# Altium footprint library LibraryPloshchadnaia.PcbLib: 35 footprints (part 1 of 3)
Each footprint in its own frame and in the unit in brackets; x right, y up, seen from the top. Pads: shape width x height; smd on the part's side, far side on the other; paste and mask are expansions set on the pad; w line width, h text height; cw(c..) or ccw(c..) is an arc to the next point about the centre after c.
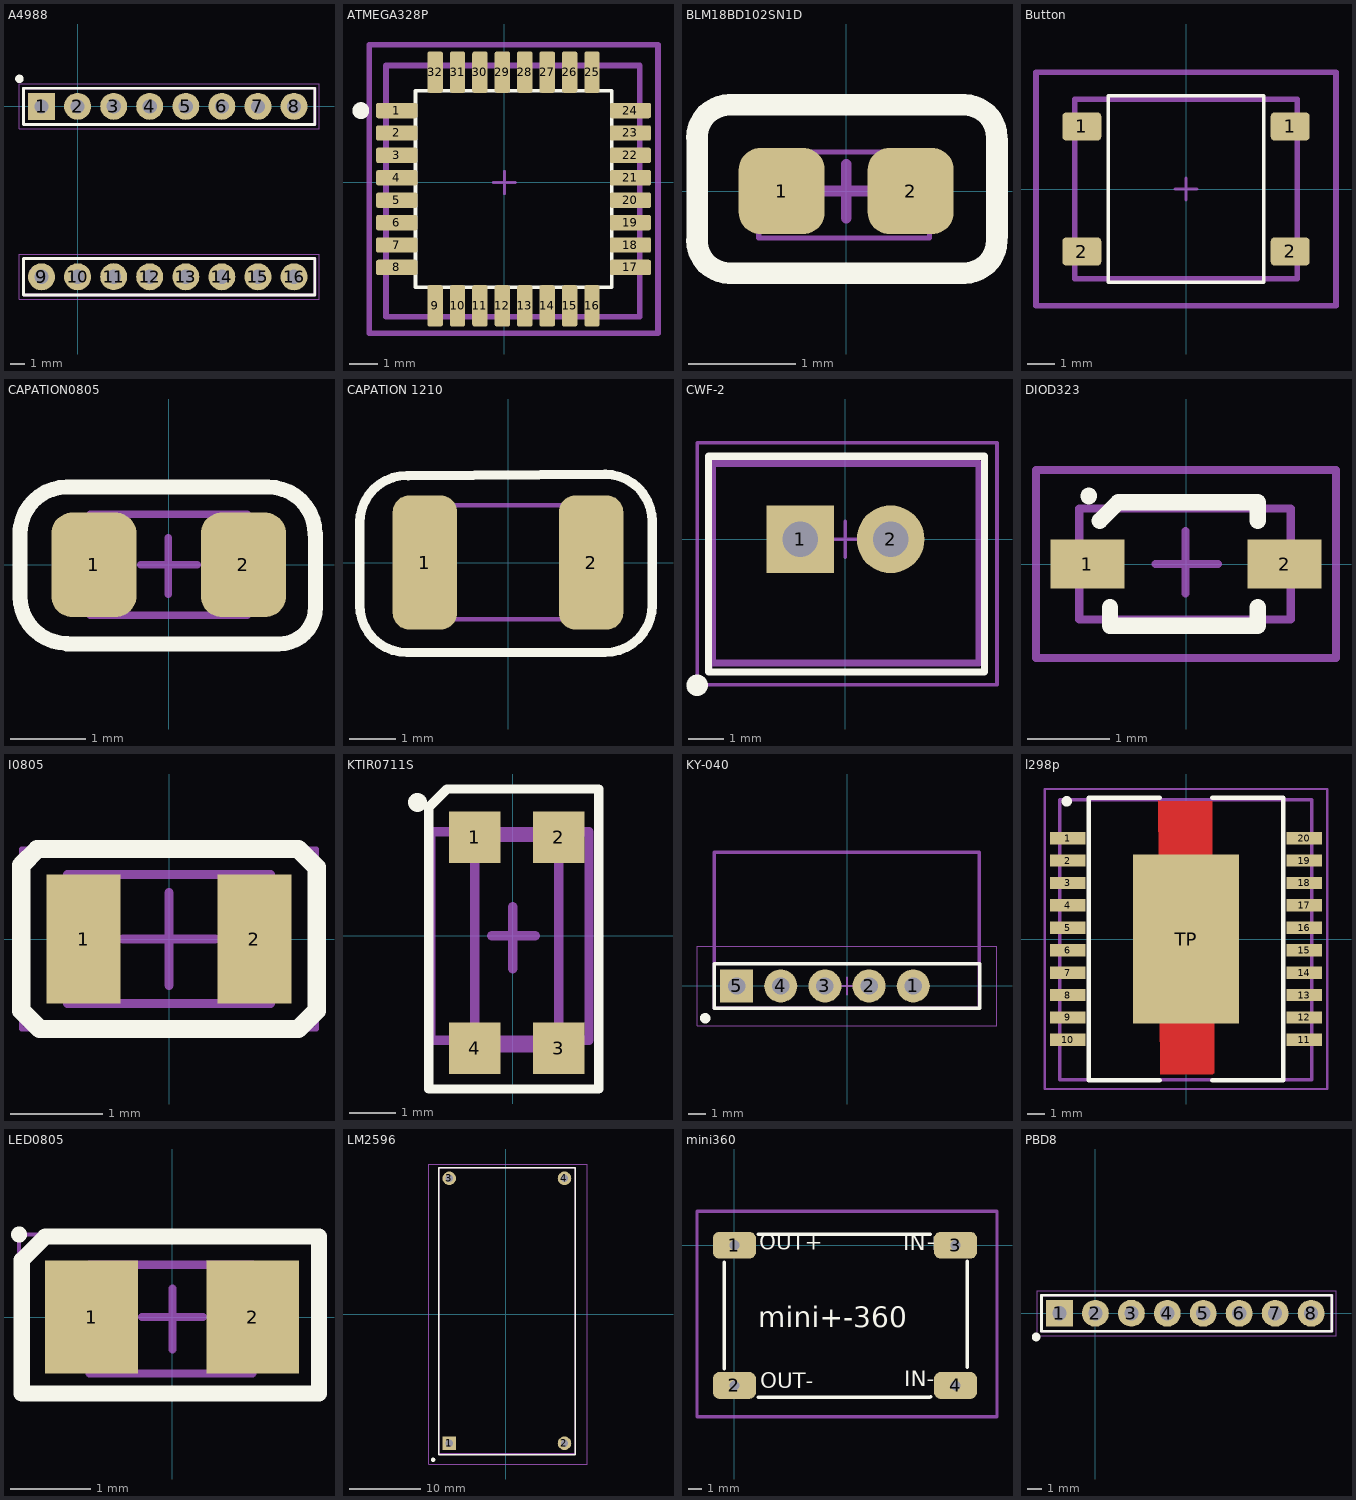
[diagram p0: the footprints below, top view; thin cyan lines are the x and y axes]

## A4988 [mm]
pads (16):
  rect 1.9x1.9 hole 1: 1(-2.54,0)
  round 1.9 hole 1: 2(0,0) 3(2.545,0.005) 4(5.08,0) 5(7.62,0) 6(10.16,0) 7(12.7,0) 8(15.24,0) 9(-2.54,-12) 10(0,-12) 11(2.545,-11.995) 12(5.08,-12) 13(7.62,-12) 14(10.16,-12) 15(12.7,-12) 16(15.24,-12)
Top Overlay:
  circle w0.6: c-4.096,1.936 r0.001
  lines w0.2: -3.815,-10.725 -3.815,-13.275 16.7,-13.275 16.7,-10.725 -3.81,-10.725 ; -3.815,1.275 -3.815,-1.275 16.7,-1.275 16.7,1.275 -3.81,1.275
Top Value (Mech7):
  text ".Comment" at -3.175,-13.143 h1.2
  text ".Comment" at -3.175,-1.143 h1.2
Top Designator:
  text ".Designator" at -3.763,-12.409 h1.5
  text ".Designator" at -3.763,-0.409 h1.5
Top Outline:
  circle w0.35: c-3.065,-11.675 r0.15
  circle w0.35: c-3.065,0.325 r0.15
  lines w0.1: 16.7,-13.275 16.7,-10.725 -3.815,-10.725 -3.815,-13.275 16.725,-13.275 ; 16.7,-1.275 16.7,1.275 -3.815,1.275 -3.815,-1.275 16.725,-1.275
  lines w0.2: 16.7,-13.275 -3.815,-13.275 -3.815,-10.725 16.725,-10.725 16.725,-13.275 ; 16.7,-1.275 -3.815,-1.275 -3.815,1.275 16.725,1.275 16.725,-1.275
Top Courtyard:
  lines w0.05: -4.125,-10.425 -4.125,-13.575 17,-13.575 17,-10.425 -4.115,-10.425 ; -4.125,1.575 -4.125,-1.575 17,-1.575 17,1.575 -4.115,1.575
  lines w0.1: -0.5,-12 0.5,-12 ; -0.5,0 0.5,0 ; 0,-12.5 0,-11.5 ; 0,-0.5 0,0.5
3D body "PBD-8-one.stp": height 8.5, standoff -3, extent -3.795,-13.232 16.522,-10.71
3D body "PBD-8-one.stp": height 8.5, standoff -3, extent -3.795,-1.232 16.522,1.29
3D body "A4988.stp": height 15.6, standoff 3.65, extent -3.65,-13.55 16.67,1.45

## ATMEGA328P [mm]
pads (32):
  rrect25% 1.47x0.55 smd: 1(-3.842,2.566) 2(-3.842,1.766) 3(-3.842,0.966) 4(-3.842,0.166) 5(-3.842,-0.634) 6(-3.842,-1.434) 7(-3.842,-2.234) 8(-3.842,-3.034) 17(4.498,-3.034) 18(4.498,-2.234) 19(4.498,-1.434) 20(4.498,-0.634) 21(4.498,0.166) 22(4.498,0.966) 23(4.498,1.766) 24(4.498,2.566)
  rrect25% 0.55x1.47 smd: 9(-2.472,-4.404) 10(-1.672,-4.404) 11(-0.872,-4.404) 12(-0.072,-4.404) 13(0.728,-4.404) 14(1.528,-4.404) 15(2.328,-4.404) 16(3.128,-4.404) 25(3.128,3.936) 26(2.328,3.936) 27(1.528,3.936) 28(0.728,3.936) 29(-0.072,3.936) 30(-0.872,3.936) 31(-1.672,3.936) 32(-2.472,3.936)
Top Overlay:
  circle w0.4: c-5.125,2.562 r0.1
  lines w0.127: -3.172,-3.629 -3.172,-3.734 ; -3.172,3.161 -3.172,3.266 ; -3.067,-3.734 -3.172,-3.734 ; -3.067,3.266 -3.172,3.266 ; 3.723,-3.734 3.828,-3.734 ; 3.723,3.266 3.828,3.266 ; 3.828,-3.629 3.828,-3.734 ; 3.828,3.161 3.828,3.266 ; -3.172,-3.734 3.828,-3.734 ; -3.172,-3.734 -3.172,3.266 ; -3.172,3.266 3.828,3.266 ; 3.828,-3.734 3.828,3.266
Top Value (Mech7):
  text ".Comment" at -2.45,-2.184 h1.52
Top Designator:
  text ".Designator" at -2.6,1.48 h1.52
Top Outline:
  lines w0.2: -4.225,-4.8 4.825,-4.8 4.825,4.175 -4.175,4.175 -4.225,4.175 -4.225,-4.8
Top 3D Body:
  circle w0.2: c-5.1,2.562 r0.1
Top Courtyard:
  lines w0.1: -0.401,-0.004 0.399,-0.004 ; -0.001,-0.404 -0.001,0.396
  lines w0.2: -4.827,-5.389 -4.827,4.921 5.483,4.921 5.483,-5.389 -4.827,-5.389
3D body "step_temp.STEP": height 1.2, standoff 0, extent -4.172,-4.734 4.828,4.266

## BLM18BD102SN1D [mm]
pads (2):
  rrect50% 0.8x0.8 smd: 1(-0.6,0) 2(0.6,0)
Top Overlay:
  lines w0.2: -1.388,-0.462 ccw(c-1.088,-0.462) -1.088,-0.762 1.1,-0.763 ccw(c1.1,-0.462) 1.4,-0.462 ; -1.388,0.5 cw(c-1.088,0.5) -1.088,0.8 1.1,0.8 cw(c1.1,0.5) 1.4,0.5 ; -1.385,-0.422 -1.385,0.471 ; 1.403,-0.422 1.403,0.471
Top Value (Mech7):
  text ".Comment" at 1.813,-0.713 h1.2
Top Designator:
  text ".Designator" at 1.838,0.437 h1.2
Top Outline:
  lines w0.05: -0.813,-0.437 0.775,-0.437 0.775,0.363 -0.813,0.363 -0.813,-0.437
Top Courtyard:
  lines w0.05: -1.388,-0.462 ccw(c-1.088,-0.462) -1.088,-0.762 1.1,-0.763 ccw(c1.1,-0.462) 1.4,-0.462 ; -1.388,0.5 cw(c-1.088,0.5) -1.088,0.8 1.1,0.8 cw(c1.1,0.5) 1.4,0.5 ; -1.385,-0.422 -1.385,0.471 ; 1.403,-0.422 1.403,0.471
  lines w0.1: -0.25,0 0.25,0 ; 0,-0.25 0,0.25
3D body "BLM18BD102SN1B.stp": height 0.8, standoff 0, extent -0.813,-0.45 0.788,0.35

## Button [mm]
height 4
pads (4):
  rrect25% 1.4x1 smd: 1(-3.75,2.25) 1(3.75,2.25) 2(-3.75,-2.25) 2(3.75,-2.25)
Top Overlay:
  lines w0.127: -2.794,-3.35 -2.794,3.35 2.794,3.35 2.794,-3.35 -2.794,-3.35
Top Value (Mech7):
  text ".Comment" at -2.13,-3.099 h1.5
Top Designator:
  text ".Designator" at -2.575,2.2 h1.5
Top Outline:
  lines w0.2: -3.975,3.225 -4,3.225 ; -4,3.225 -4,-3.225 4,-3.225 4,3.225 -4,3.225
Top Courtyard:
  lines w0.1: -0.4,0 0.4,0 ; 0,-0.4 0,0.4
  lines w0.2: -5.4,-4.2 5.4,-4.2 5.4,4.2 -5.4,4.2 -5.4,-4.2
3D body "TS-1143S-WP.STEP": height 4.3, standoff 0, extent -4,-3.25 4,3.25

## CAPATION0805 [mm]
pads (2):
  rrect50% 1.14x1.4 smd: 1(-1,0) 2(1,0)
Top Overlay:
  lines w0.2: -1.988,-0.422 ccw(c-1.36,-0.422) -1.36,-1.05 ; -1.988,0.412 cw(c-1.36,0.412) -1.36,1.04 1.33,1.04 cw(c1.33,0.412) 1.958,0.412 ; -1.985,-0.422 -1.985,0.471 ; -1.36,-1.06 1.471,-1.06 ccw(c1.471,-0.567) 1.964,-0.567 1.964,-0.276 1.965,-0.275 1.965,0.412
Top Value (Mech7):
  text ".Comment" at 2.125,-0.725 h1.2
Top Designator:
  text ".Designator" at 2.15,0.425 h1.2
Top Outline:
  lines w0.1: -1.05,-0.675 -1.05,0.675 1.05,0.675 1.05,-0.675 -1.05,-0.675
Top Courtyard:
  lines w0.05: -2.001,-0.369 ccw(c-1.35,-0.369) -1.35,-1.02 1.359,-1.02 ; -2.001,0.43 cw(c-1.35,0.43) -1.35,1.081 ; -2,-0.369 -2,0.43 ; -1.35,1.08 1.359,1.08 ; 1.359,-1.021 ccw(c1.359,-0.37) 2.01,-0.37 2.01,-0.02 2.01,0.425 ccw(c1.359,0.425) 1.359,1.076
  lines w0.1: -0.375,0 0.385,0 ; -0.005,-0.397 -0.005,0.363
3D body: height 1.35, standoff 0, extent 0.6,-0.675 1.05,0.675
3D body: height 1.35, standoff 0, extent -1.05,-0.675 -0.6,0.675
3D body: height 1.35, standoff 0, extent -0.6,-0.675 0.6,0.675

## CAPATION 1210 [mm]
pads (2):
  rrect50% 1.4x2.9 smd: 1(-1.8,0) 2(1.8,0)
Top Overlay:
  lines w0.2: -3.213,-0.931 -3.213,0.863 cw(c-2.188,0.863) -2.188,1.888 ; -3.213,-0.925 ccw(c-2.188,-0.925) -2.188,-1.95 ; -2.187,-1.952 2.099,-1.947 ; -2.162,1.881 2.112,1.91 ; 2.1,-1.95 ccw(c2.1,-0.925) 3.125,-0.925 ; 2.1,1.913 cw(c2.1,0.888) 3.125,0.888 3.125,-0.906
Top Value (Mech7):
  text ".Comment" at 3.225,-0.65 h1.2
Top Designator:
  text ".Designator" at 3.25,0.5 h1.2
Top Outline:
  lines w0.1: -1.587,-1.225 1.562,-1.225 1.562,1.238 -1.587,1.238 -1.587,-1.225
Top Courtyard:
  lines w0.05: -3.225,-0.956 -3.225,0.837 cw(c-2.2,0.837) -2.2,1.863 ; -3.225,-0.95 ccw(c-2.2,-0.95) -2.2,-1.975 ; -2.2,-1.977 2.086,-1.972 ; -2.175,1.856 2.1,1.885 ; 2.087,-1.975 ccw(c2.087,-0.95) 3.113,-0.95 ; 2.087,1.888 cw(c2.087,0.863) 3.113,0.863 3.113,-0.931
3D body "!_1210.STEP": height 2, standoff 0, extent -1.6,-1.25 1.6,1.25

## CWF-2 [mm] "PLS-2"
height 11.5
pads (2):
  rect 1.9x1.9 hole 1: 1(-1.27,0)
  round 1.9 hole 1: 2(1.27,0)
Top Overlay:
  circle w0.6: c-4.163,-4.102 r0.001
  lines w0.2: -3.843,-3.723 3.909,-3.723 3.909,2.328 -3.843,2.328 -3.843,-3.723
Top Value (Mech7):
  text ".Comment" at -1.672,0.143 h1.2
Top Designator:
  text ".Designator" at -2.523,-1.078 h1.5
Top Outline:
  circle w0.35: c-1.795,0.325 r0.15
  lines w0.1: -3.781,-3.732 1.184,-3.732 3.729,-3.732 3.866,-3.732 3.866,2.324 -3.781,2.324 -3.781,-3.732
  lines w0.2: -3.725,-3.475 3.75,-3.475 3.75,2.125 -3.7,2.125 -3.725,2.125 -3.725,-3.475
Top Courtyard:
  lines w0.1: -0.5,0 0.5,0 ; 0,-0.5 0,0.5 ; -4.161,-4.087 -4.161,2.713 4.255,2.713 4.255,-4.087 -4.161,-4.087
3D body "User Library-CWF-2.STEP": height 7, standoff -3.5, extent -3.73,-3.55 3.77,2.2

## DIOD323 [mm]
pads (2):
  rect 0.9x0.6 smd: 1(-1.2,0) 2(1.2,0)
Top Overlay:
  circle w0.2: c-1.183,0.828 r0.001
  lines w0.2: -1.05,0.525 -0.825,0.75 0.875,0.75 0.875,0.525 ; -0.925,-0.525 -0.925,-0.75 0.875,-0.75 0.875,-0.525
Top Value (Mech7):
  text ".Comment" at 1.888,-0.66 h1.2
Top Designator:
  text ".Designator" at 1.888,0.229 h1.2
Top Outline:
  lines w0.1: -1.3,-0.675 1.275,-0.675 1.275,0.675 -1.3,0.675 -1.3,-0.675
Top Courtyard:
  lines w0.1: -0.371,-0.001 0.389,-0.001 ; -0.008,-0.357 -0.008,0.403 ; -1.825,-1.143 -1.825,0.7 -1.825,1.143 1.825,1.143 1.825,-1.143 -1.825,-1.143
3D body "SOD-323F.STEP": height 1.1, standoff 0, extent -1.3,-0.675 1.3,0.675

## I0805 [mm] "inductor"
height 0.45
pads (2):
  rect 0.8x1.4 smd: 1(-0.925,0) 2(0.925,0)
Top Overlay:
  lines w0.2: -1.6,-0.775 -1.6,0.8 -1.425,0.975 1.4,0.975 1.6,0.775 1.6,-0.775 1.4,-0.975 -1.4,-0.975 -1.6,-0.775
Top Value (Mech7):
  text ".Comment" at -0.5,-0.6 h1
Top Designator:
  text ".Designator" at -0.5,0.1 h1
Top Outline:
  lines w0.1: -1.1,-0.7 1.1,-0.7 1.1,0.7 -1.1,0.7 -1.1,-0.7
Top Courtyard:
  lines w0.05: -1.6,-0.975 -1.6,0.975 1.6,0.975 1.6,-0.975 -1.6,-0.975
  lines w0.1: -0.5,0 0.5,0 ; 0,-0.5 0,0.5
3D body "User Library-led_0805.step": height 1.1, standoff 0, extent -1.01,-0.625 1.01,0.625

## KTIR0711S [mm]
pads (4):
  rect 1.1x1.1 smd: 1(-0.817,2.105) 2(0.983,2.105) 3(0.983,-2.395) 4(-0.817,-2.395)
Top Overlay:
  circle w0.4: c-2.037,2.85 r0.001
  lines w0.2: -1.793,-3.269 -1.793,2.749 -1.643,2.899 -1.557,2.984 -1.407,3.135 1.83,3.135 1.83,-3.269 -1.793,-3.269
Top Value (Mech7):
  text ".Comment" at 2,0.591 h1.52
Top Designator:
  text ".Designator" at 2.075,1.705 h1.52
Top Outline:
  lines w0.2: -1.8,2.225 1.625,2.225 1.625,-2.225 -1.75,-2.225 -1.75,2.225
Top Courtyard:
  lines w0.2: -0.45,0 0,0 ; 0,-0.7 0,0 ; 0,0.625 0,0 ; 0.475,0 0,0 ; -0.817,-2.395 -0.817,2.105 0.983,2.105 0.983,-2.395 -0.817,-2.395
3D body "User Library-ktir0711s-1.STEP": height 1.5, standoff 0, extent -1.76,-2.282 1.64,2.218

## KY-040 [mm]
pads (5):
  round 1.9 hole 1 mask+0.102: 1(3.81,0) 2(1.27,0)
  round 1.9 hole 1: 3(-1.27,0) 4(-3.81,0)
  rect 1.9x1.9 hole 1: 5(-6.35,0)
Top Overlay:
  circle w0.6: c-8.155,-1.85 r0.001
  lines w0.2: -7.625,-1.275 -7.625,1.275 7.625,1.275 7.625,-1.275 -7.625,-1.275
Top Value (Mech7):
  text ".Comment" at -6.985,-1.143 h1.2
Top Designator:
  text ".Designator" at -7.573,-0.409 h1.5
Top Outline:
  circle w0.35: c-6.875,0.325 r0.15
  lines w0.1: -7.625,-1.275 7.625,-1.275 7.625,1.275 -7.625,1.275 -7.625,-1.275
  lines w0.2: -7.625,-1.275 7.6,-1.275 7.6,7.675 -7.625,7.675 -7.625,-1.275
Top Courtyard:
  lines w0.05: -8.625,-2.275 -8.625,2.275 8.625,2.275 8.625,-2.275 -8.625,-2.275
  lines w0.1: -0.5,0 0.5,0 ; 0,-0.5 0,0.5
3D body "User Library-PLS-6R-1.STEP": height 5.45, standoff -3, extent -7.57,-1.27 7.67,7.35

## l298p [mm]
pads (21):
  rect 2x0.7 smd: 1(-6.7,5.715) 2(-6.7,4.445) 3(-6.7,3.175) 4(-6.7,1.905) 5(-6.7,0.635) 6(-6.7,-0.635) 7(-6.7,-1.905) 8(-6.7,-3.175) 9(-6.7,-4.445) 10(-6.7,-5.715) 11(6.7,-5.715) 12(6.7,-4.445) 13(6.7,-3.175) 14(6.7,-1.905) 15(6.7,-0.635) 16(6.7,0.635) 17(6.7,1.905) 18(6.7,3.175) 19(6.7,4.445) 20(6.7,5.715)
  rect 6x9.6 smd paste-6: TP(0,0)
Top Layer:
  region: -1.575,7.875 -1.5,7.8 1.5,7.8 1.5,4.3 1.425,4.225 -1.55,4.225
  region: -1.475,-4.025 -1.4,-4.1 1.6,-4.1 1.6,-7.6 1.525,-7.675 -1.45,-7.675
Top Overlay:
  circle w0.6: c-6.756,7.802 r0.001
  lines w0.254: -1.5,-8 -5.5,-8 -5.5,8 -1.5,8 ; 1.5,-8 5.5,-8 5.5,8 1.5,8
Top Paste:
  region: 1.9,-3.001 -1.901,-3.001 -1.901,3 1.9,3
Top Solder:
  rectangle: -1.65,-8 1.775,-4.6
  rectangle: -1.725,4.7 1.7,8
Top Value (Mech7):
  text ".Comment" at 8.251,5.722 h1.2
Top Designator:
  text ".Designator" at 8.276,6.872 h1.2
Top Outline:
  lines w0.2: -7.15,-7.975 7.125,-7.975 7.125,7.9 -7.1,7.9 -7.15,7.9 -7.15,-7.975
Top Courtyard:
  lines w0.1: -0.399,-0.001 0.401,-0.001 ; 0.001,-0.401 0.001,0.399
  lines w0.127: -8,-8.5 8,-8.5 8,8.5 -8,8.5 -8,-8.5
3D body "step_temp.STEP": height 3.6, standoff 0, extent -7.1,-7.95 7.1,7.95

## LED0805 [mm]
pads (2):
  rect 1.15x1.4 smd: 1(-1,0) 2(1,0)
Top Overlay:
  circle w0.2: c-1.9,1.025 r0.001
  lines w0.2: -1.867,-0.95 1.825,-0.95 1.825,1 -1.575,1 -1.867,0.708 -1.867,-0.95
Top Value (Mech7):
  text ".Comment" at 2.1,-0.875 h1.2
Top Designator:
  text ".Designator" at 2.125,0.275 h1.2
Top Outline:
  lines w0.1: -1.025,-0.7 -1.025,0.65 1,0.65 1,-0.7 -1.025,-0.7
Top Courtyard:
  lines w0.05: -1.9,-0.95 1.825,-0.95 1.825,1.025 -1.9,1.025 -1.9,-0.95
  lines w0.1: -0.375,0 0.385,0 ; 0.004,-0.404 0.004,0.356
3D body "User Library-led_0805.step": height 1.1, standoff 0, extent -1.01,-0.65 1.01,0.6

## LM2596 [mm]
pads (4):
  rect 1.9x1.9 hole 1: 1(-7.9,-18)
  round 1.9 hole 1: 2(8.191,-18) 3(-7.9,19) 4(8.191,19)
Top Overlay:
  circle w0.6: c-10.16,-20.32 r0.001
  lines w0.2: -9.4,-19.6 9.7,-19.6 9.7,20.5 -9.4,20.5 -9.4,-19.6
Top Value (Mech7):
  text ".Comment" at -1.345,-7.266 h1.2
Top Designator:
  text ".Designator" at -1.363,-6.009 h1.5
Top Outline:
  lines w0.2: -9.4,-19.5 -9.4,20.5 9.7,20.5 9.7,-19.5 -9.4,-19.5
Top Courtyard:
  lines w0.05: -10.8,19.8 -10.8,21 -9.8,21 11.4,21 11.4,-20.9 -10.8,-20.9 -10.8,20.7
3D body "LM2596 DC-DC Buck Converter Module with PLS.stp": height 17.53, standoff -3.89, extent -9.391,-19.5 9.7,20.5

## mini360 [mm]
pads (4):
  rrect50% 3.2x2 hole 0.762: 1(0,0) 2(0,-10.4) 3(16.4,0) 4(16.4,-10.4)
Top Overlay:
  lines w0.254: -0.75,-9.175 -0.75,-1.275 ; 1.75,-11.275 14.5,-11.275 14.55,-11.225 14.55,-11.25 ; 1.75,0.8 14.525,0.8 ; 17.275,-9.05 17.275,-1.175
  text "IN+" at 12.534,-0.775 h2
  text "IN-" at 12.584,-10.875 h2
  text "OUT+" at 1.826,-0.725 h2
  text "OUT-" at 1.926,-11.025 h2
  text "mini+-360" at 1.754,-6.071 h1.52
Top Courtyard:
  lines w0.254: -2.775,-12.725 19.475,-12.725 19.475,2.525 -2.775,2.525 -2.775,-12.725
3D body "MIni - 360.step": height 3.75, standoff 0, extent -0.734,-11.232 17.266,0.768

## PBD8 [mm]
pads (8):
  rect 1.9x1.9 hole 1: 1(-2.54,0)
  round 1.9 hole 1: 2(0,0) 3(2.545,0.005) 4(5.08,0) 5(7.62,0) 6(10.16,0) 7(12.7,0) 8(15.24,0)
Top Overlay:
  circle w0.6: c-4.195,-1.675 r0.001
  lines w0.2: -3.815,1.275 -3.815,-1.275 16.7,-1.275 16.7,1.275 -3.81,1.275
Top Value (Mech7):
  text ".Comment" at -3.175,-1.143 h1.2
Top Designator:
  text ".Designator" at -3.763,-0.409 h1.5
Top Outline:
  circle w0.35: c-3.065,0.325 r0.15
  lines w0.1: 16.7,-1.275 16.7,1.275 -3.815,1.275 -3.815,-1.275 16.725,-1.275
  lines w0.2: 16.7,-1.275 -3.815,-1.275 -3.815,1.275 16.725,1.275 16.725,-1.275
Top Courtyard:
  lines w0.05: -4.125,1.575 -4.125,-1.575 17,-1.575 17,1.575 -4.115,1.575
  lines w0.1: -0.5,0 0.5,0 ; 0,-0.5 0,0.5
3D body "PBD-8-one.stp": height 8.5, standoff -3, extent -3.795,-1.232 16.522,1.29
3D body "OLED 0.96_  V2.0.step": height 13.95, standoff 2.25, extent -8.65,-1.25 18.85,26.5